# Altium footprint library DZ_LIB.PcbLib: 89 footprints (part 1 of 6)
Each footprint in its own frame and in the unit in brackets; x right, y up, seen from the top. Pads: shape width x height; smd on the part's side, far side on the other; paste and mask are expansions set on the pad; w line width, h text height; cw(c..) or ccw(c..) is an arc to the next point about the centre after c.
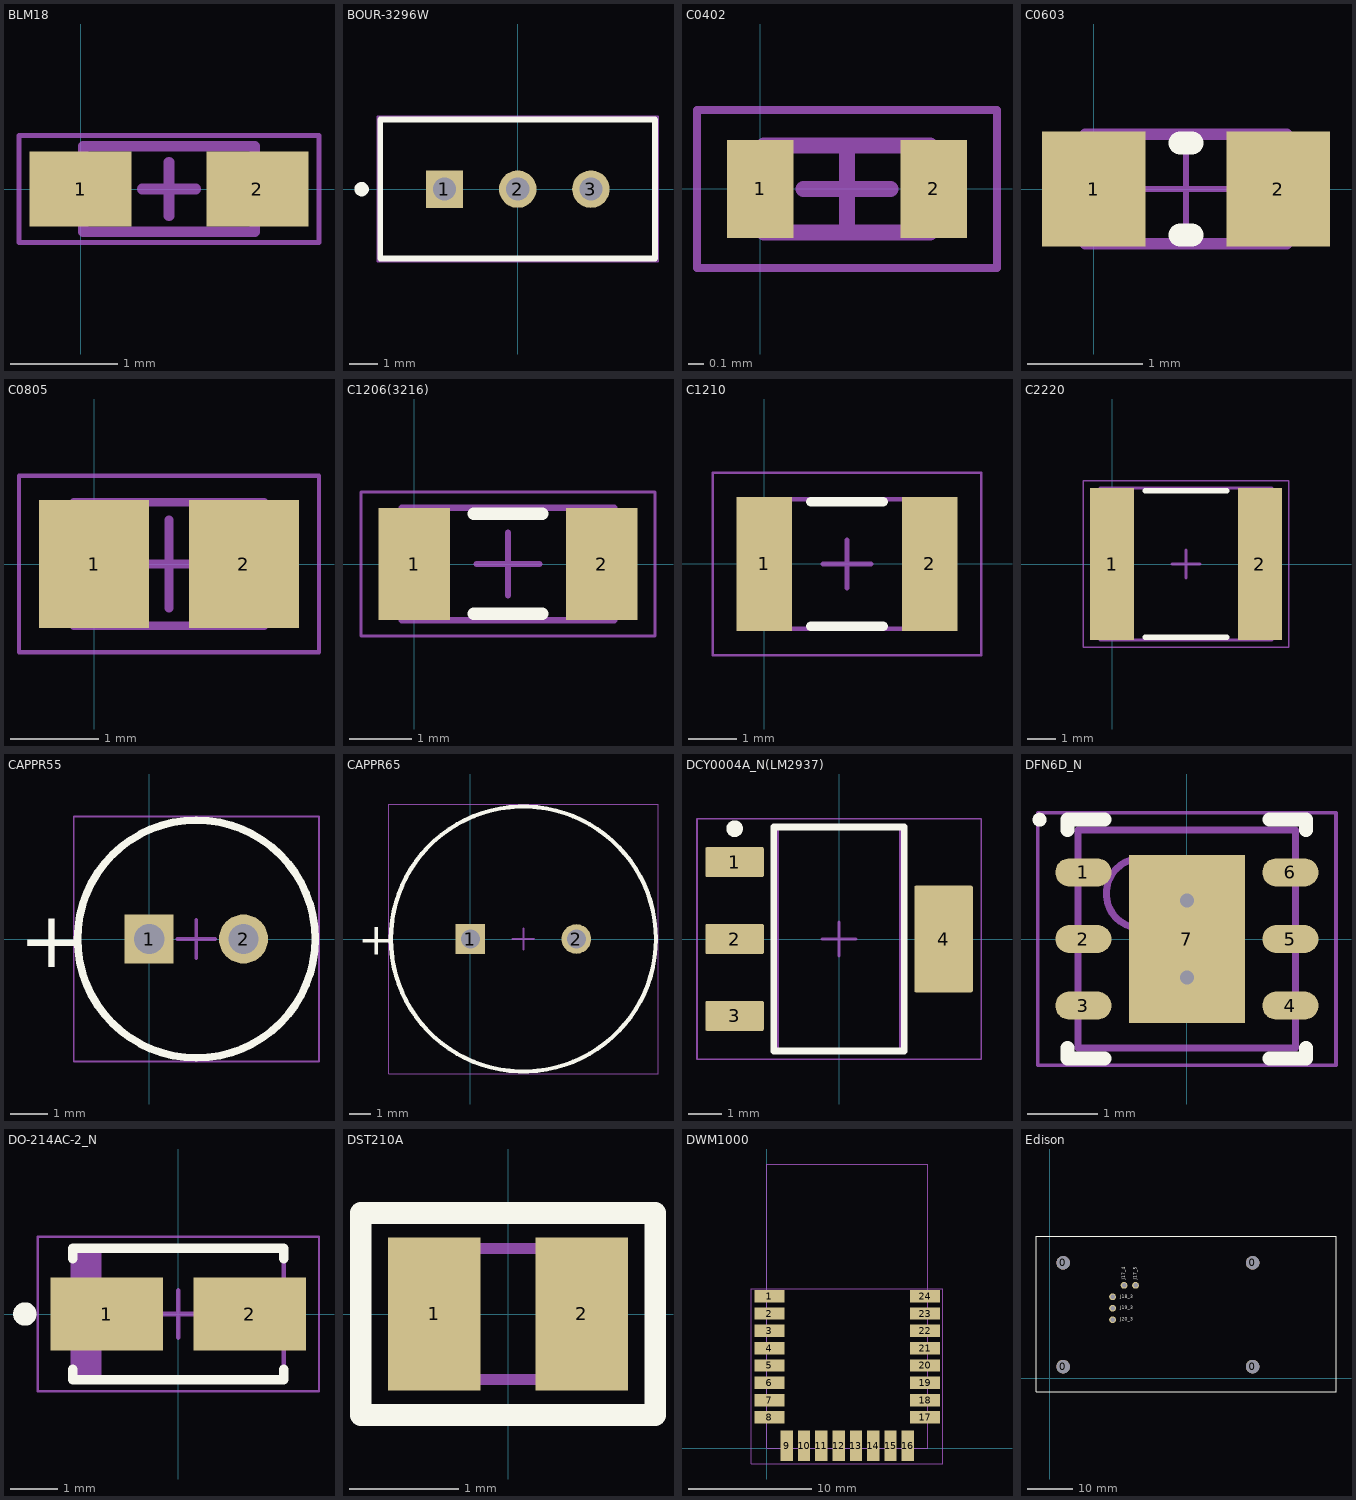
[diagram p0: the footprints below, top view; thin cyan lines are the x and y axes]

## BLM18 [mm] "MURATA, Chip Ferrite Bead, 2-Leads, Body 1.6x0.8mm, Height 0.95mm, Flow"
height 0.95
pads (2):
  rect 0.95x0.7 smd: 1(0,0) 2(1.65,0)
Mechanical 6:
  text "Land Pattern Adapted for Flow Soldering" at -0.175,0.6 h0.05
Mechanical 13:
  lines w0.1: 0.025,-0.4 1.625,-0.4 1.625,0.4 0.025,0.4 0.025,-0.4
Mechanical 15:
  lines w0.05: -0.575,-0.5 -0.575,0.5 2.225,0.5 2.225,-0.5 -0.575,-0.5
  lines w0.1: 0.575,0 1.075,0 ; 0.825,-0.25 0.825,0.25
3D body: height 0.95, standoff 0, extent 0.025,-0.4 1.625,0.4

## BOUR-3296W [mm] "THD, 3-Leads, Body 9.53x4.83mm, Pitch 2.54mm"
height 11.904
pads (3):
  rect 1.3x1.3 hole 0.8: 1(-2.54,0)
  round 1.3 hole 0.8: 2(0,0) 3(2.54,0)
Top Overlay:
  circle w0.25: c-5.415,0 r0.125
  lines w0.2: 4.765,-2.41 -4.765,-2.41 -4.765,2.42 4.765,2.42 4.765,-2.405
Mechanical 13:
  lines w0.1: -4.765,-2.41 -4.765,2.42 4.765,2.42 4.765,-2.41 -4.765,-2.41
Mechanical 15:
  lines w0.05: -4.865,-2.51 -4.865,2.52 4.865,2.52 4.865,-2.51 -4.865,-2.51
  lines w0.1: -0.5,0 0.5,0 ; 0,-0.5 0,0.5
3D body "3296W.stp": height 11.55, standoff -6.4, extent -4.762,-2.405 4.762,2.421

## C0402 [mm] "Chip Capacitor, 2-Leads, Body 1.05x0.55mm, IPC Medium Density"
height 0.55
pads (2):
  rect 0.42x0.62 smd: 1(0,0) 2(1.1,0)
Mechanical 13:
  lines w0.1: 0.025,-0.275 0.025,0.275 1.075,0.275 1.075,-0.275 0.025,-0.275
Mechanical 15:
  lines w0.05: -0.4,-0.5 -0.4,0.5 1.5,0.5 1.5,-0.5 -0.4,-0.5
  lines w0.1: 0.275,0 0.825,0 ; 0.55,-0.275 0.55,0.275
3D body: height 0.55, standoff 0, extent 0.125,-0.275 0.975,0.275
3D body: height 0.55, standoff 0, extent 0.025,-0.275 0.125,0.275
3D body: height 0.55, standoff 0, extent 0.975,-0.275 1.075,0.275

## C0603 [mm] "Chip Capacitor, Body 1.6x0.8mm, Height 1.0mm, IPC Medium Density"
height 1
pads (2):
  rect 0.9x1 smd: 1(0,0) 2(1.6,0)
Top Overlay:
  lines w0.2: 0.75,-0.4 0.85,-0.4 ; 0.75,0.4 0.85,0.4
Mechanical 13:
  lines w0.1: -0.075,-0.475 1.675,-0.475 1.675,0.475 -0.075,0.475 -0.075,-0.475
Mechanical 15:
  lines w0.05: 0.325,0 1.275,0 ; 0.8,-0.475 0.8,0.475
3D body: height 1, standoff 0, extent 1.325,-0.475 1.675,0.475
3D body: height 1, standoff 0, extent -0.075,-0.475 0.275,0.475
3D body: height 1, standoff 0, extent 0.275,-0.475 1.325,0.475

## C0805 [mm] "Chip Capacitor, 2-Leads, Body 2.00x1.25mm, IPC Medium Density"
height 1.4
pads (2):
  rect 1.25x1.45 smd: 1(0,0) 2(1.7,0)
Mechanical 13:
  lines w0.1: -0.225,-0.7 -0.225,0.7 1.925,0.7 1.925,-0.7 -0.225,-0.7
Mechanical 15:
  lines w0.05: -0.85,-1 -0.85,1 2.55,1 2.55,-1 -0.85,-1
  lines w0.1: 0.35,0 1.35,0 ; 0.85,-0.5 0.85,0.5
3D body: height 1.4, standoff 0, extent 0.225,-0.7 1.475,0.7
3D body: height 1.4, standoff 0, extent -0.225,-0.7 0.225,0.7
3D body: height 1.4, standoff 0, extent 1.475,-0.7 1.925,0.7

## C1206(3216) [mm] "Chip Capacitor, Body 3.2x1.6mm, Height 1.1mm, IPC Medium Density"
height 1.1
pads (2):
  rect 1.15x1.8 smd: 1(0,0) 2(3,0)
Top Overlay:
  lines w0.2: 0.95,-0.8 2.05,-0.8 ; 0.95,0.8 2.05,0.8
Mechanical 13:
  lines w0.1: -0.2,-0.9 -0.2,0.9 3.2,0.9 3.2,-0.9 -0.2,-0.9
Mechanical 15:
  lines w0.05: -0.85,-1.15 -0.85,1.15 3.85,1.15 3.85,-1.15 -0.85,-1.15
  lines w0.1: 1,0 2,0 ; 1.5,-0.5 1.5,0.5
3D body: height 1.1, standoff 0, extent 0.3,-0.9 2.7,0.9
3D body: height 1.1, standoff 0, extent -0.2,-0.9 0.3,0.9
3D body: height 1.1, standoff 0, extent 2.7,-0.9 3.2,0.9

## C1210 [mm] "Chip Capacitor, 2-Leads, Body 3.5x2.7mm, IPC Medium Density"
height 2.7
pads (2):
  rect 1.15x2.8 smd: 1(0,0) 2(3.45,0)
Top Overlay:
  lines w0.2: 0.975,-1.3 2.475,-1.3 ; 0.975,1.3 2.475,1.3
Mechanical 13:
  lines w0.1: -0.025,-1.35 3.475,-1.35 3.475,1.35 -0.025,1.35 -0.025,-1.35
Mechanical 15:
  lines w0.05: -1.075,-1.9 4.525,-1.9 4.525,1.9 -1.075,1.9 -1.075,-1.9
  lines w0.1: 1.225,0 2.225,0 ; 1.725,-0.5 1.725,0.5
3D body: height 2.7, standoff 0, extent 3.175,-1.35 3.475,1.35
3D body: height 2.7, standoff 0, extent -0.025,-1.35 0.275,1.35
3D body: height 2.7, standoff 0, extent 0.275,-1.35 3.175,1.35

## C2220 [mm] "Chip Capacitor, Body 5.7x5.0mm, Height 2.3mm, IPC Medium Density"
height 2.3
pads (2):
  rect 1.55x5.4 smd: 1(0,0) 2(5.25,0)
Top Overlay:
  lines w0.2: 1.175,-2.6 4.075,-2.6 ; 1.175,2.6 4.075,2.6
Mechanical 13:
  lines w0.1: -0.425,-2.7 5.675,-2.7 5.675,2.7 -0.425,2.7 -0.425,-2.7
Mechanical 15:
  lines w0.05: -1.025,-2.95 6.275,-2.95 6.275,2.95 -1.025,2.95 -1.025,-2.95
  lines w0.1: 2.125,0 3.125,0 ; 2.625,-0.5 2.625,0.5
3D body: height 2.3, standoff 0, extent 5.075,-2.7 5.675,2.7
3D body: height 2.3, standoff 0, extent -0.425,-2.7 0.175,2.7
3D body: height 2.3, standoff 0, extent 0.175,-2.7 5.075,2.7

## CAPPR55 [mm] "THD, 2-Leads, Dia 6.3mm, Body Length 11.2mm"
height 12.2
pads (2):
  rect 1.3x1.3 hole 0.8: 1(0,0)
  round 1.3 hole 0.8: 2(2.5,0)
Top Overlay:
  circle w0.2: c1.25,0 r3.15
  text "+" at -3.45,-0.75 h1.5
Mechanical 13:
  circle w0.1: c1.25,0 r3.15
Mechanical 15:
  lines w0.05: -2,-3.25 4.5,-3.25 4.5,3.25 -2,3.25 -2,-3.25
  lines w0.1: 0.75,0 1.75,0 ; 1.25,-0.5 1.25,0.5
3D body "PNSC-ECA-1VM101.stp": height 12.21, standoff -4, extent -1.9,-3.15 4.41,3.15

## CAPPR65 [mm] "THD, 2-Leads, Dia 12.5mm, Body Length 20mm"
height 22
pads (2):
  rect 1.4x1.4 hole 0.9: 1(0,0)
  round 1.4 hole 0.9: 2(5,0)
Top Overlay:
  circle w0.2: c2.5,0 r6.25
  text "+" at -5.3,-0.75 h1.5
Mechanical 13:
  circle w0.1: c2.5,0 r6.25
Mechanical 15:
  lines w0.05: -3.85,-6.35 -3.85,6.35 8.85,6.35 8.85,-6.35 -3.85,-6.35
  lines w0.1: 2,0 3,0 ; 2.5,-0.5 2.5,0.5
3D body "CAPPR65-500-2000X1250X2200.stp": height 23.01, standoff -3, extent -3.75,-6.25 8.76,6.25

## DCY0004A_N(LM2937) [mm] "SOT223, 4-Leads, Body 6.7x3.7mm, Pitch 2.3mm, IPC Medium Density"
height 1.8
pads (4):
  rrect11% 1.75x0.9 smd: 1(-3.125,2.3) 2(-3.125,0) 3(-3.125,-2.3)
  rrect6% 1.75x3.2 smd: 4(3.125,0)
Top Overlay:
  circle w0.25: c-3.125,3.3 r0.125
  lines w0.2: -1.95,-3.35 1.95,-3.35 1.95,3.35 -1.95,3.35 -1.95,-3.35
Mechanical 13:
  lines w0.1: -1.85,-3.35 1.85,-3.35 1.85,3.35 -1.85,3.35 -1.85,-3.35
Mechanical 15:
  lines w0.05: -4.25,-3.6 4.25,-3.6 4.25,3.6 -4.25,3.6 -4.25,-3.6
  lines w0.1: -0.5,0 0.5,0 ; 0,-0.5 0,0.5
3D body "SOT-223.stp": height 1.62, standoff -0.03, extent -3.5,-3.25 3.5,3.25

## DFN6D_N [mm] "SON, 6-Leads, Body 3x3mm, Pitch 0.95mm, Thermal Pad 2.4x1.65mm, IPC Medium Density"
height 0.95
pads (7):
  oval 0.8x0.4 smd: 1(-1.475,0.95) 2(-1.475,0) 3(-1.475,-0.95) 4(1.475,-0.95) 5(1.475,0) 6(1.475,0.95)
  rect 1.65x2.4 smd: 7(0,0)
via 0,-0.55 diameter 0.5 hole 0.2
via 0,0.55 diameter 0.5 hole 0.2
Top Overlay:
  circle w0.1: c-2.1,1.7 r0.05
  lines w0.2: -1.7,-1.55 -1.7,-1.7 -1.175,-1.7 ; -1.7,1.55 -1.7,1.7 -1.175,1.7 ; 1.175,-1.7 1.7,-1.7 1.7,-1.55 ; 1.175,1.7 1.7,1.7 1.7,1.55
Mechanical 13:
  circle w0.1: c-0.65,0.65 r0.5
  lines w0.1: -1.55,-1.55 1.55,-1.55 1.55,1.55 -1.55,1.55 -1.55,-1.55
Mechanical 15:
  lines w0.05: -2.125,-1.8 2.125,-1.8 2.125,1.8 -2.125,1.8 -2.125,-1.8
  lines w0.1: -0.5,0 0.5,0 ; 0,-0.5 0,0.5
3D body: height 0.95, standoff 0, extent -1.55,-1.55 1.55,1.55

## DO-214AC-2_N [mm] "DO-214AC, 2-Leads, Body 4.5x2.79mm, IPC Medium Density"
height 2.29
pads (2):
  rect 2.4x1.55 smd: 1(-1.525,0) 2(1.525,0)
Top Overlay:
  circle w0.25: c-3.275,0 r0.125
  lines w0.2: -2.25,-1.175 -2.25,-1.4 2.25,-1.4 2.25,-1.175 ; -2.25,1.175 -2.25,1.4 2.25,1.4 2.25,1.175
Mechanical 13:
  rectangle: -2.25,-1.395 -1.645,1.395
  lines w0.1: -2.25,-1.395 -2.25,1.395 2.25,1.395 2.25,-1.395 -2.25,-1.395
Mechanical 15:
  lines w0.05: -3,-1.65 -3,1.65 3,1.65 3,-1.65 -3,-1.65
  lines w0.1: -0.5,0 0.5,0 ; 0,-0.5 0,0.5
3D body: height 2.29, standoff 0, extent -2.25,-1.395 2.25,1.395

## DST210A [mm]
pads (2):
  rect 0.85x1.4 smd: 1(-0.675,0) 2(0.675,0)
Top Overlay:
  lines w0.2: -1.35,-0.925 1.35,-0.925 1.35,0.925 -1.35,0.925 -1.35,-0.925
Mechanical 1:
  lines w0.1: -1,-0.5 cw(c-1,-0.6) -0.9,-0.6 0.9,-0.6 cw(c1,-0.6) 1,-0.5 1,0.5 cw(c1,0.6) 0.9,0.6 -0.9,0.6 cw(c-1,0.6) -1,0.5 -1,-0.5
3D body: height 0.5, standoff 0, extent -0.9,-0.6 0.9,0.6

## DWM1000 [mm]
pads (24):
  rect 2.45x1 smd: 1(0.205,12.3) 2(0.205,10.9) 3(0.205,9.5) 4(0.205,8.1) 5(0.205,6.7) 6(0.205,5.3) 7(0.205,3.9) 8(0.205,2.5) 17(12.795,2.5) 18(12.795,3.9) 19(12.795,5.3) 20(12.795,6.7) 21(12.795,8.1) 22(12.795,9.5) 23(12.795,10.9) 24(12.795,12.3)
  rect 1x2.45 smd: 9(1.6,0.205) 10(3,0.205) 11(4.4,0.205) 12(5.8,0.205) 13(7.2,0.205) 14(8.6,0.205) 15(10,0.205) 16(11.4,0.205)
Mechanical 13:
  lines w0.05: 0,0 13,0 13,23 0,23 0,0
Mechanical 15:
  lines w0.05: -1.27,-1.27 -1.27,12.925 14.224,12.925 14.224,-1.27 -1.27,-1.27
3D body "DWM1000 Module.STEP": height 2.9, standoff -0.01, extent 0,-0.013 13,22.987

## Edison [mm]
pads (9):
  round 3 hole 3: 0(3,2.6) 0(3,25.6) 0(45,2.6) 0(45,25.6)
  round 1.5 hole 1: J17-4(16.52,20.6) J17-5(19.06,20.6) J18-3(13.98,18.06) J19-3(13.98,15.52) J20-3(13.98,12.98)
Top Overlay:
  lines w0.254: -3,-3 -3,31 -3,31.5 63.5,31.5 63.5,-2.5 63.5,-3 -3,-3
  text "J18_3" at 15.707,17.755 h0.7
  text "J19_3" at 15.656,15.317 h0.7
  text "J17_4" at 16.774,21.87 h0.7
  text "J20_3" at 15.631,12.726 h0.7
  text "J17_5" at 19.314,21.87 h0.7
3D body "edison.STEP": height 13, standoff 2, extent 0,0 60.6,28.6